# Altium schematic symbol library Schlib2.SchLib: 1 symbol
Pins are listed as number, name and electrical type; pins without a type are passive.

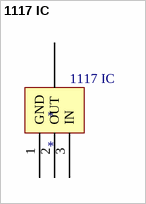
[diagram p0: symbol 1117 IC]

## 1117 IC
designator *
footprint 1117 ic
pins: 1 GND, 2 OUT, 3 IN, ?1